# Altium footprint library BASIC Library.PCBLIB: 464 footprints (part 5 of 30)
Each footprint in its own frame and in the unit in brackets; x right, y up, seen from the top. Pads: shape width x height; smd on the part's side, far side on the other; paste and mask are expansions set on the pad; w line width, h text height; cw(c..) or ccw(c..) is an arc to the next point about the centre after c.
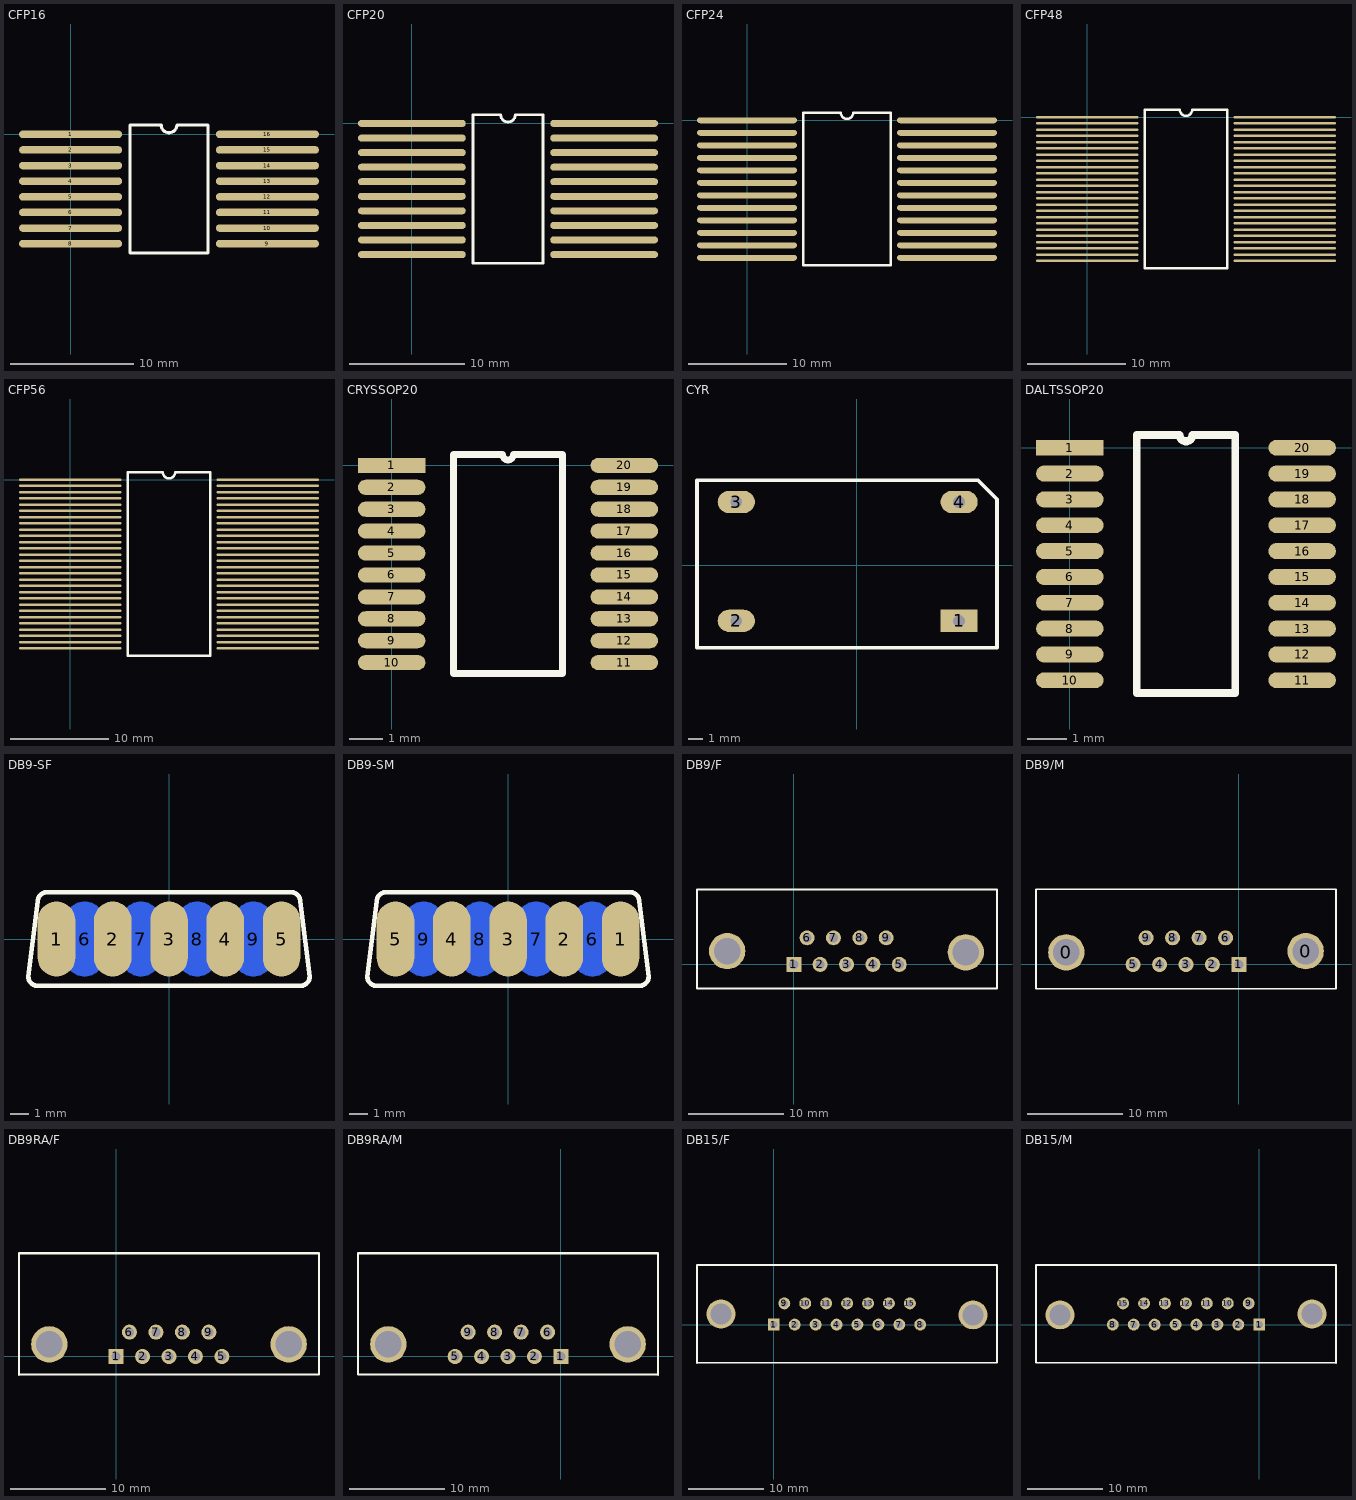
[diagram p4: the footprints below, top view; thin cyan lines are the x and y axes]

## CFP16 [mil]
pads (16):
  oval 330x24 smd: 1(0,0) 2(0,-50) 3(0,-100) 4(0,-150) 5(0,-200) 6(0,-250) 7(0,-300) 8(0,-350) 9(630,-350) 10(630,-300) 11(630,-250) 12(630,-200) 13(630,-150) 14(630,-100) 15(630,-50) 16(630,0)
TopOverlay:
  lines w10: 190,-380 190,30 290,30 ccw(c315,30) 340,30 440,30 440,-380 190,-380

## CFP20 [mil]
pads (20):
  oval 370x24 smd: 1(0,0) 2(0,-50) 3(0,-100) 4(0,-150) 5(0,-200) 6(0,-250) 7(0,-300) 8(0,-350) 9(0,-400) 10(0,-450) 11(660,-450) 12(660,-400) 13(660,-350) 14(660,-300) 15(660,-250) 16(660,-200) 17(660,-150) 18(660,-100) 19(660,-50) 20(660,0)
TopOverlay:
  lines w10: 210,-480 210,30 305,30 ccw(c330,30) 355,30 450,30 450,-480 210,-480

## CFP24 [mil]
pads (24):
  oval 400x24 smd: 1(0,0) 2(0,-50) 3(0,-100) 4(0,-150) 5(0,-200) 6(0,-250) 7(0,-300) 8(0,-350) 9(0,-400) 10(0,-450) 11(0,-500) 12(0,-550) 13(800,-550) 14(800,-500) 15(800,-450) 16(800,-400) 17(800,-350) 18(800,-300) 19(800,-250) 20(800,-200) 21(800,-150) 22(800,-100) 23(800,-50) 24(800,0)
TopOverlay:
  lines w10: 225,-580 225,30 375,30 ccw(c400,30) 425,30 575,30 575,-580 225,-580

## CFP48 [mil]
pads (48):
  oval 410x10 smd: 1(0,0) 2(0,-25) 3(0,-50) 4(0,-75) 5(0,-100) 6(0,-125) 7(0,-150) 8(0,-175) 9(0,-200) 10(0,-225) 11(0,-250) 12(0,-275) 13(0,-300) 14(0,-325) 15(0,-350) 16(0,-375) 17(0,-400) 18(0,-425) 19(0,-450) 20(0,-475) 21(0,-500) 22(0,-525) 23(0,-550) 24(0,-575) 25(790,-575) 26(790,-550) 27(790,-525) 28(790,-500) 29(790,-475) 30(790,-450) 31(790,-425) 32(790,-400) 33(790,-375) 34(790,-350) 35(790,-325) 36(790,-300) 37(790,-275) 38(790,-250) 39(790,-225) 40(790,-200) 41(790,-175) 42(790,-150) 43(790,-125) 44(790,-100) 45(790,-75) 46(790,-50) 47(790,-25) 48(790,0)
TopOverlay:
  lines w10: 230,-605 560,-605 560,30 420,30 cw(c395,30) 370,30 230,30 230,-605

## CFP56 [mil]
pads (56):
  oval 410x10 smd: 1(0,0) 2(0,-25) 3(0,-50) 4(0,-75) 5(0,-100) 6(0,-125) 7(0,-150) 8(0,-175) 9(0,-200) 10(0,-225) 11(0,-250) 12(0,-275) 13(0,-300) 14(0,-325) 15(0,-350) 16(0,-375) 17(0,-400) 18(0,-425) 19(0,-450) 20(0,-475) 21(0,-500) 22(0,-525) 23(0,-550) 24(0,-575) 25(0,-600) 26(0,-625) 27(0,-650) 28(0,-675) 29(790,-675) 30(790,-650) 31(790,-625) 32(790,-600) 33(790,-575) 34(790,-550) 35(790,-525) 36(790,-500) 37(790,-475) 38(790,-450) 39(790,-425) 40(790,-400) 41(790,-375) 42(790,-350) 43(790,-325) 44(790,-300) 45(790,-275) 46(790,-250) 47(790,-225) 48(790,-200) 49(790,-175) 50(790,-150) 51(790,-125) 52(790,-100) 53(790,-75) 54(790,-50) 55(790,-25) 56(790,0)
TopOverlay:
  lines w10: 230,-705 560,-705 560,30 420,30 cw(c395,30) 370,30 230,30 230,-705

## CRYSSOP20 [mm]
pads (20):
  rect 2x0.45 smd: 1(0,0)
  oval 2x0.45 smd: 2(0,-0.65) 3(0,-1.3) 4(0,-1.95) 5(0,-2.6) 6(0,-3.25) 7(0,-3.9) 8(0,-4.55) 9(0,-5.2) 10(0,-5.85) 11(6.9,-5.85) 12(6.9,-5.2) 13(6.9,-4.55) 14(6.9,-3.9) 15(6.9,-3.25) 16(6.9,-2.6) 17(6.9,-1.95) 18(6.9,-1.3) 19(6.9,-0.65) 20(6.9,0)
TopOverlay:
  lines w0.2: 1.835,-6.175 1.835,0.325 3.287,0.325 ccw(c3.45,0.325) 3.613,0.325 5.065,0.325 5.065,-6.175 1.835,-6.175

## CYR [mil]
pads (4):
  rect 100x60 hole 32: 1(275,-150)
  oval 100x60 hole 32: 2(-325,-150) 3(-325,170) 4(275,170)
TopOverlay:
  lines w10: -430.83,-222.28 -405.31,-222.28 377.05,-222.28 377.05,177.4 326.02,228.43 -430.83,228.43 -430.83,-222.28

## DALTSSOP20 [mm]
pads (20):
  rect 1.7x0.4 smd: 1(0,0)
  oval 1.7x0.4 smd: 2(0,-0.65) 3(0,-1.3) 4(0,-1.95) 5(0,-2.6) 6(0,-3.25) 7(0,-3.9) 8(0,-4.55) 9(0,-5.2) 10(0,-5.85) 11(5.85,-5.85) 12(5.85,-5.2) 13(5.85,-4.55) 14(5.85,-3.9) 15(5.85,-3.25) 16(5.85,-2.6) 17(5.85,-1.95) 18(5.85,-1.3) 19(5.85,-0.65) 20(5.85,0)
TopOverlay:
  lines w0.2: 1.685,-6.175 4.165,-6.175 4.165,0.325 3.087,0.325 cw(c2.925,0.325) 2.762,0.325 1.685,0.325 1.685,-6.175

## DB9-SF [mil]
pads (9):
  oval 80x160 smd: 1(-240,0) 2(-120,0) 3(0,0) 4(120,0) 5(240,0)
  oval 80x160 smd far side: 6(-180,0) 7(-60,0) 8(60,0) 9(180,0)
TopOverlay:
  lines w10: -300,-80 ccw(c-280,-80) -280,-100 280,-100 ccw(c280,-80) 300,-80 280,80 ccw(c260,80) 260,100 -260,100 ccw(c-260,80) -280,80 -300,-80

## DB9-SM [mil]
pads (9):
  oval 80x160 smd: 1(240,0) 2(120,0) 3(0,0) 4(-120,0) 5(-240,0)
  oval 80x160 smd far side: 6(180,0) 7(60,0) 8(-60,0) 9(-180,0)
TopOverlay:
  lines w10: -300,-80 ccw(c-280,-80) -280,-100 280,-100 ccw(c280,-80) 300,-80 280,80 ccw(c260,80) 260,100 -260,100 ccw(c-260,80) -280,80 -300,-80

## DB9/F [mil]
pads (11):
  rect 62x62 hole 38: 1(0,0)
  round 62 hole 38: 2(109,0) 3(218,0) 4(327,0) 5(436,0) 6(55,110) 7(164,110) 8(273,110) 9(382,110)
  round 150 hole 110: ""(-275,55) ""(711,50)
TopOverlay:
  lines w8: -400,-100 -400,310 840,310 840,-100 -400,-100

## DB9/M [mil]
pads (11):
  round 150 hole 110: 0(-711,50) 0(275,55)
  rect 62x62 hole 38: 1(0,0)
  round 62 hole 38: 2(-109,0) 3(-218,0) 4(-327,0) 5(-436,0) 6(-55,110) 7(-164,110) 8(-273,110) 9(-382,110)
TopOverlay:
  lines w8: -836,-100 -836,310 400,310 400,-100 -836,-100

## DB9RA/F [mil]
pads (11):
  rect 62x62 hole 38: 1(0,0)
  round 62 hole 38: 2(109,0) 3(218,0) 4(327,0) 5(436,0) 6(55,100) 7(164,100) 8(273,100) 9(382,100)
  round 150 hole 110: ""(-275,50) ""(711,50)
TopOverlay:
  lines w8: -400,-75 836,-75 836,425
  lines w10: -400,-75 -400,425 836,425

## DB9RA/M [mil]
pads (11):
  rect 62x62 hole 38: 1(0,0)
  round 62 hole 38: 2(-109,0) 3(-218,0) 4(-327,0) 5(-436,0) 6(-55,100) 7(-164,100) 8(-273,100) 9(-382,100)
  round 150 hole 110: ""(-711,50) ""(275,50)
TopOverlay:
  lines w8: -836,425 -836,-75 400,-75
  lines w10: -836,425 400,425 400,-75

## DB15/F [mil]
pads (17):
  rect 62x62 hole 38: 1(0,0)
  round 62 hole 38: 2(109,0) 3(218,0) 4(327,0) 5(436,0) 6(545,0) 7(654,0) 8(763,0) 9(55,110) 10(164,110) 11(273,110) 12(382,110) 13(491,110) 14(600,110) 15(709,110)
  round 150 hole 110: ""(-275,55) ""(1038,50)
TopOverlay:
  lines w8: -400,-200 1163,-200 1163,310
  lines w10: -400,-200 -400,310 1163,310

## DB15/M [mil]
pads (17):
  rect 62x62 hole 38: 1(0,0)
  round 62 hole 38: 2(-109,0) 3(-218,0) 4(-327,0) 5(-436,0) 6(-545,0) 7(-654,0) 8(-763,0) 9(-55,110) 10(-164,110) 11(-273,110) 12(-382,110) 13(-491,110) 14(-600,110) 15(-709,110)
  round 150 hole 110: ""(-1038,50) ""(275,55)
TopOverlay:
  lines w8: -1163,310 -1163,-200 400,-200
  lines w10: -1163,310 400,310 400,-200